# Altium footprint library SSQ-103-02-T-S-RA.PcbLib: 1 footprints
Each footprint in its own frame and in the unit in brackets; x right, y up, seen from the top. Pads: shape width x height; smd on the part's side, far side on the other; paste and mask are expansions set on the pad; w line width, h text height; cw(c..) or ccw(c..) is an arc to the next point about the centre after c.
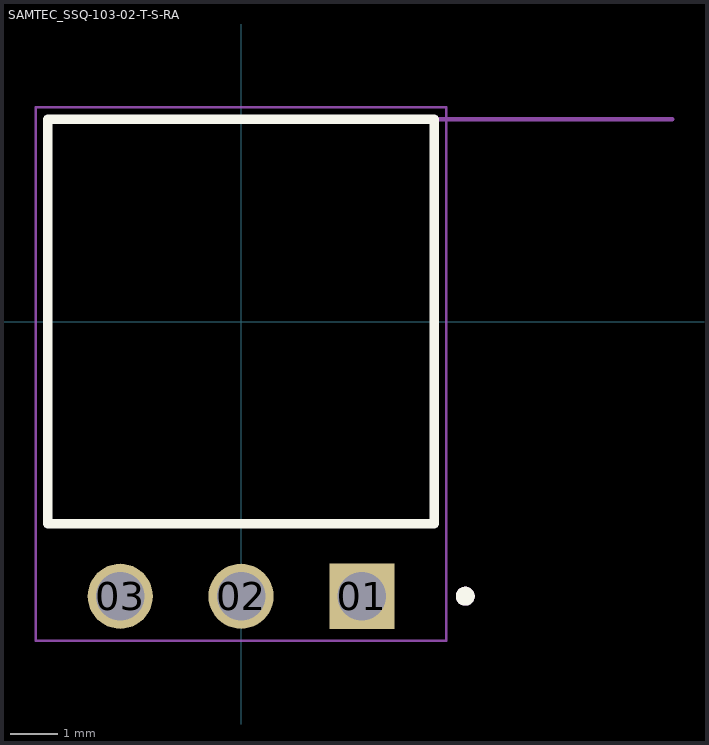
[diagram p0: the footprint, top view; thin cyan lines are the x and y axes]

## SAMTEC_SSQ-103-02-T-S-RA [mm]
pads (3):
  rect 1.37x1.37 hole 1.02: 01(2.54,-5.775)
  round 1.37 hole 1.02: 02(0,-5.775) 03(-2.54,-5.775)
Top Overlay:
  circle w0.2: c4.715,-5.775 r0.1
  lines w0.2: -4.065,-4.255 4.065,-4.255 4.065,4.255 -4.065,4.255 -4.065,-4.255
Mechanical 13:
  circle w0.2: c4.715,-5.775 r0.1
  lines w0.1: 9.065,4.255 4.065,4.255 ; -4.065,-4.255 -4.065,4.255 ; -4.065,-4.255 4.065,-4.255 ; -4.065,-4.255 -4.065,4.255 ; -4.065,4.255 4.065,4.255 ; -4.065,4.255 4.065,4.255 ; 4.065,-4.255 4.065,4.255 ; 4.065,-4.255 4.065,4.255
  text "'.Designator'" at 3.783,-7.414 h0.7
  text "PCB Edge" at 4.565,4.755 h1
Mechanical 15:
  lines w0.05: -4.315,-6.71 4.315,-6.71 4.315,4.505 -4.315,4.505 -4.315,-6.71